# Altium integrated library Analog Devices Data Converters Analog-to-Digital Converters.IntLib: 2404 symbols (part 31 of 346)
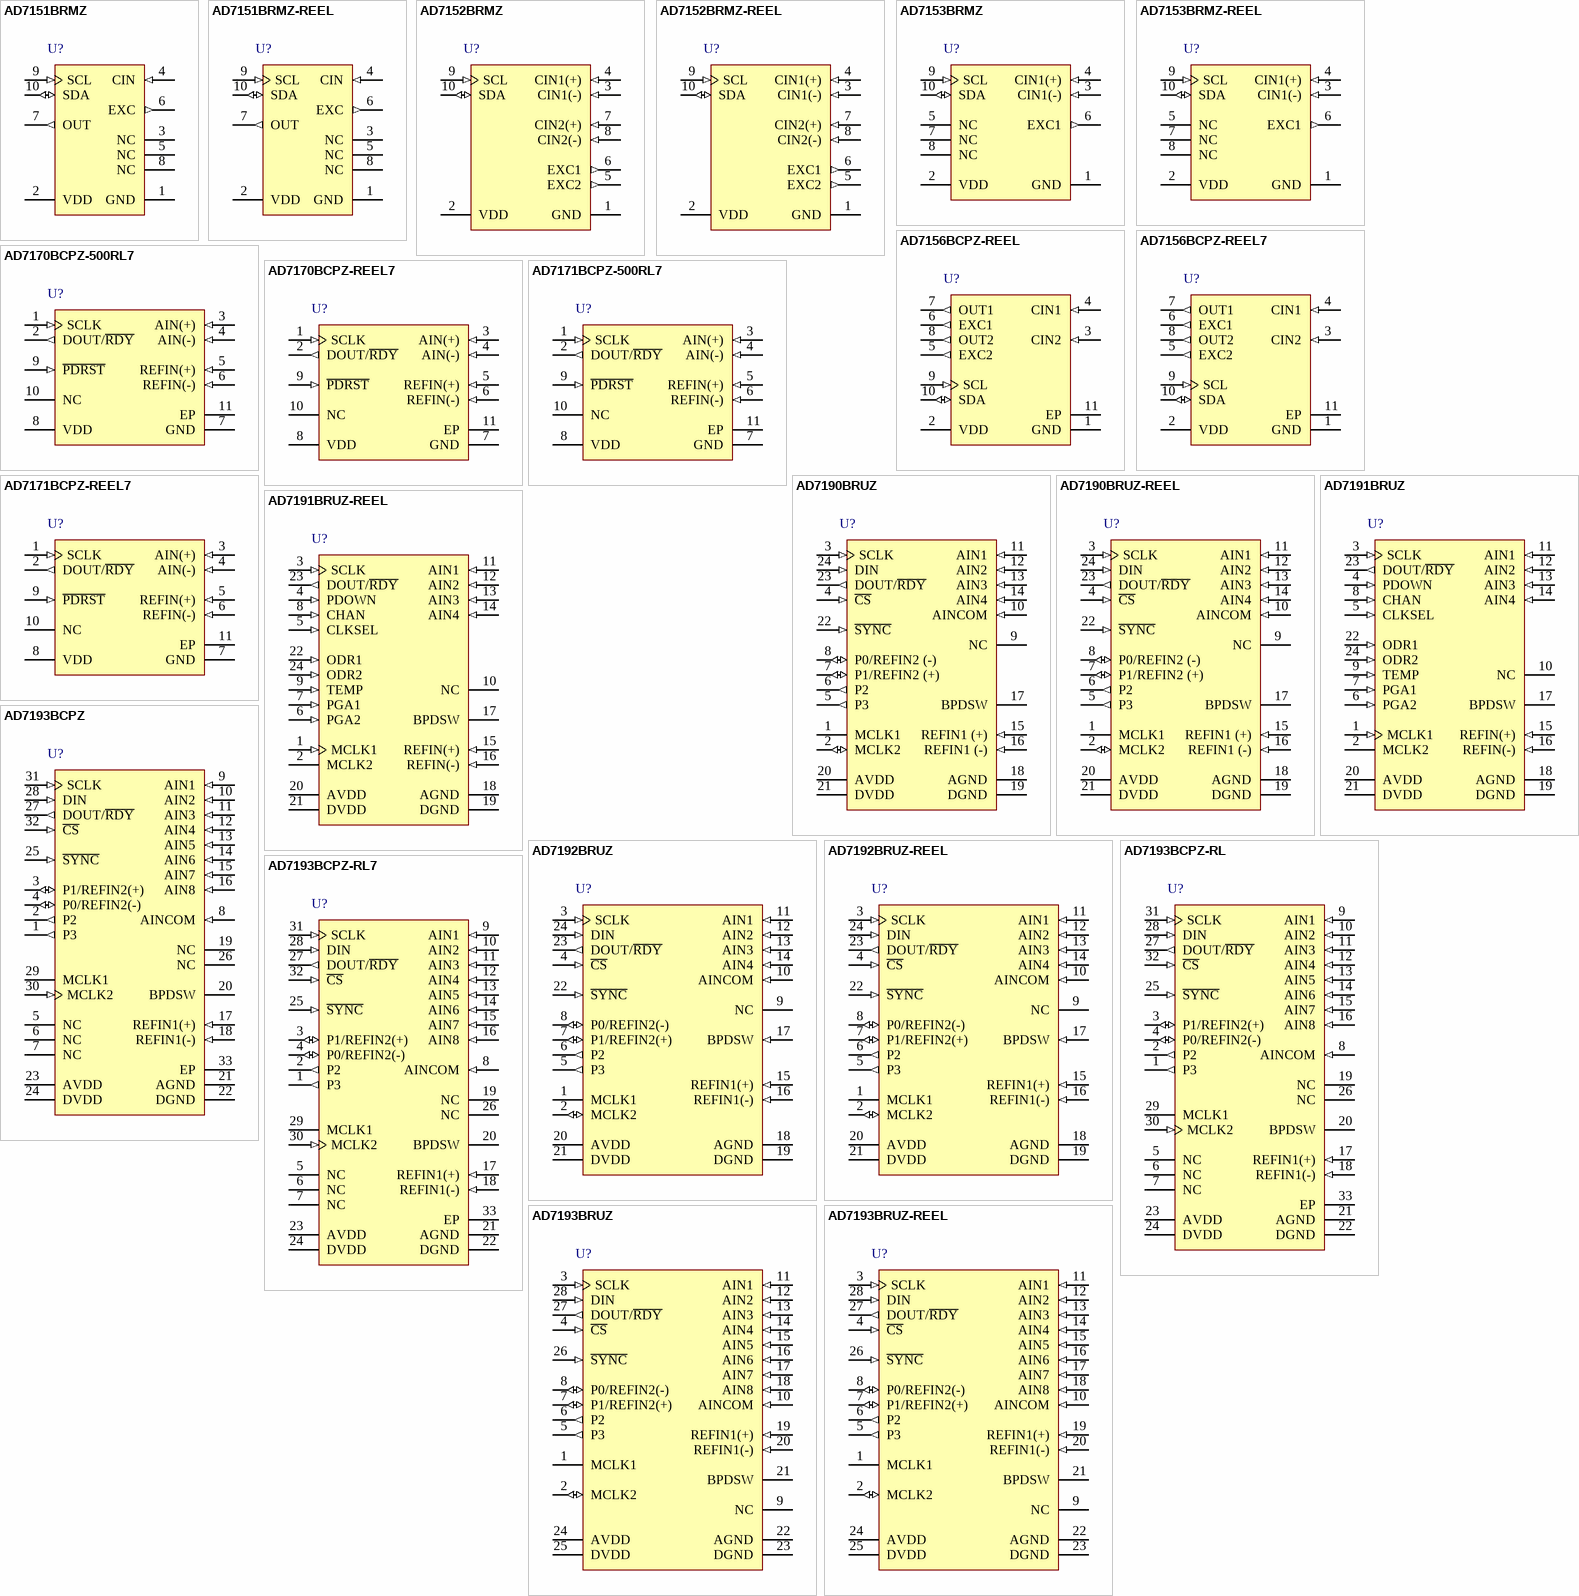
[diagram p271: symbols AD7151BRMZ to AD7193BRUZ-REEL]

## AD7192BRUZ-REEL
designator U?
Quad 24-Bit Ultralow Noise Sigma-Delta Analog-to-Digital Converter with Serial, SPI Interface and PGA, 4.8KSPS, -40 to +105 degC, RU-24, Pb-Free, Reel; Generic Part Number: AD7192; Manufacturer: Analog Devices; PartNumber: AD7192BRUZ-REEL; Resolution (Bits): 24; Channels: 4; Throughput Rate (SPS): 4.8K; Interface: Ser, SPI; DatasheetVersion: Rev.A; PackageVersion: 2002; PackageReference: RU-24; PackageDescription: 24-Lead Thin Shrink Small Outline Package [TSSOP]; Supplier 1: Digi-Key; Supplier Part Number 1: AD7192BRUZ-REEL-ND; Supplier 2: Mouser; Supplier Part Number 2: 584-AD7192BRUZ-R; RoHS: Y; Packing: Reel; Mounting Technology: Surface Mount; Code_JEDEC: MO-153-AD; ComponentLink1Description: Manufacturer URL; ComponentLink1URL: http://www.analog.com/en/index.html; ComponentLink2Description: Datasheet; ComponentLink2URL: http://www.analog.com/static/imported-files/data_sheets/AD7192.pdf; ComponentLink3Description: Package Specification; ComponentLink3URL: http://www.analog.com/static/imported-files/packages/380523655245964505593671154107510036154RU24.pdf; ComponentLink4Description: Product URL; ComponentLink4URL: http://www.analog.com/en/analog-to-digital-converters/ad-converters/ad7192/products/product.html
footprint RU-24_N (TSOP, 24-Leads, Body 7.8x4.4mm, Pitch 0.65mm, IPC Medium Density)
footprint RU-24_L (TSOP, 24-Leads, Body 7.8x4.4mm, Pitch 0.65mm, IPC High Density)
footprint RU-24_M (TSOP, 24-Leads, Body 7.8x4.4mm, Pitch 0.65mm, IPC Low Density)
pins: 1 MCLK1 "When the master clock for the device is provided externally by a crystal, the crystal is connected between MCLK1 and MCLK2.", 2 MCLK2 (io) "Master Clock Signal for the Device. The AD7192 has an internal 4.92 MHz clock. This internal clock can be made available on the MCLK2 pin. The clock for the AD7192 can be provided externally also in the form of a crystal or (See Datasheet)", 3 SCLK (in) "Serial Clock Input. This serial clock input is for data transfers to and from the ADC. The SCLK has a Schmitt-triggered input, making the interface suitable for opto-isolated applications. The serial clock can be continuous (See Datasheet)", 4 ~{CS} (in) "Chip Select Input. This is an active low logic input used to select the ADC. C\S\ can be used to select the ADC in systems with more than one device on the serial bus or as a frame synchronization signal in communicating (See Datasheet)", 5 P3 (out) "Digital Output Pin. This pin can function as a general-purpose output bit referenced between AVDD and AGND.", 6 P2 (out) "Digital Output Pin. This pin can function as a general-purpose output bit referenced between AVDD and AGND.", 7 P1/REFIN2(+) (io) "Digital Output Pin/Positive Reference Input. This pin functions as a general-purpose output bit referenced between AVDD and AGND. When the REFSEL bit in the configuration register = 1, this pin functions as REFIN2(+). An (See Datasheet)", 8 P0/REFIN2(-) (io) "Digital Output Pin/Negative Reference Input. This pin functions as a general-purpose output bit referenced between AVDD and AGND. When the REFSEL bit in the configuration register = 1, this pin functions as REFIN2(-). This (See Datasheet)", 9 NC "No Connect. This pin should be tied to AGND.", 10 AINCOM (in) "Analog inputs AIN1 to AIN4 are referenced to this input when configured for pseudodifferential operation.", 11 AIN1 (in) "Analog Input. This pin can be configured as the positive input of a fully differential input pair when used with AIN2 or as a pseudodifferential input when used with AINCOM.", 12 AIN2 (in) "Analog Input. This pin can be configured as the negative input of a fully differential input pair when used with AIN1 or as a pseudodifferential input when used with AINCOM.", 13 AIN3 (in) "Analog Input. This pin can be configured as the positive input of a fully differential input pair when used with AIN4 or as a pseudodifferential input when used with AINCOM.", 14 AIN4 (in) "Analog Input. This pin can be configured as the negative input of a fully differential input pair when used with AIN3 or as a pseudodifferential input when used with AINCOM.", 15 REFIN1(+) (in) "Positive Reference Input. An external reference can be applied between REFIN1(+) and REFIN1(-). REFIN1(+) can lie anywhere between AVDD and AGND + 1 V. The nominal reference voltage, (REFIN1(+) - REFIN1(-)), is AVDD, but the (See Datasheet)", 16 REFIN1(-) (in) "Negative Reference Input. This reference input can lie anywhere between AGND and AVDD - 1 V.", 17 BPDSW (in) "Bridge Power-Down Switch to AGND.", 18 AGND (power) "Analog Ground Reference Point", 19 DGND (power) "Digital Ground Reference Point.", 20 AVDD (power) "Analog Supply Voltage, 3 V to 5.25 V. AVDD is independent of DVDD. Therefore, DVDD can be operated at 3 V with AVDD at 5 V or vice versa.", 21 DVDD (power) "Digital Supply Voltage, 2.7 V to 5.25 V. DVDD is independent of AVDD. Therefore, AVDD can be operated at 3 V with DVDD at 5 V or vice versa.", 22 ~{SYNC} (in) "Logic input that allows for synchronization of the digital filters and analog modulators when using a number of AD7192 devices. While S\Y\N\C\ is low, the nodes of the digital filter, the filter control logic, and the (See Datasheet)", 23 DOUT/~{RDY} (out) "Serial Data Output/Data Ready Output. DOUT/R\D\Y\ serves a dual purpose. It functions as a serial data output pin to access the output shift register of the ADC. The output shift register can contain data from any of the (See Datasheet)", 24 DIN (in) "Serial Data Input to the Input Shift Register on the ADC. Data in this shift register is transferred to the control registers in the ADC, with the register selection bits of the communications register identifying the (See Datasheet)"

## AD7193BCPZ
designator U?
Quad 24-Bit Ultralow Noise Sigma-Delta Analog-to-Digital Converter with Serial, SPI Interface and PGA, 4.8KSPS, -40 to +105 degC, CP-32-11, Pb-Free, Tray; Generic Part Number: AD7193; Manufacturer: Analog Devices; PartNumber: AD7193BCPZ; Resolution (Bits): 24; Channels: 4; Throughput Rate (SPS): 4.8K; Interface: Ser, SPI; DatasheetVersion: Rev.C; PackageVersion: 011708-A; PackageReference: CP-32-11; PackageDescription: 32-Lead Lead Frame Chip Scale Package [LFCSP_VQ] 5 x 5 mm Body, Very Thin Quad; Supplier 1: Digi-Key; Supplier Part Number 1: AD7193BCPZ-ND; Supplier 2: Newark; Supplier Part Number 2: 74R5970; Supplier 3: Mouser; Supplier Part Number 3: 584-AD7193BCPZ; RoHS: Y; Packing: Tray; Mounting Technology: Surface Mount; ComponentLink1Description: Manufacturer URL; ComponentLink1URL: http://www.analog.com/en/index.html; ComponentLink2Description: Datasheet; ComponentLink2URL: http://www.analog.com/static/imported-files/data_sheets/AD7193.pdf; ComponentLink3Description: Package Specification; ComponentLink3URL: http://www.analog.com/static/imported-files/packages/PKG_PDF/LFCSP(CP)/CP-32/CP_32_11.pdf; ComponentLink4Description: Product URL; ComponentLink4URL: http://www.analog.com/en/analog-to-digital-converters/ad-converters/ad7193/products/product.html
footprint CP-32-11_N (QFN, 32-Leads, Body 5x5mm, Pitch 0.5mm, Thermal Pad 3.6x3.6mm, IPC Medium Density)
footprint CP-32-11_L (QFN, 32-Leads, Body 5x5mm, Pitch 0.5mm, Thermal Pad 3.6x3.6mm, IPC High Density)
footprint CP-32-11_M (QFN, 32-Leads, Body 5x5mm, Pitch 0.5mm, Thermal Pad 3.6x3.6mm, IPC Low Density)
pins: 1 P3 (out) "Digital Output Pin. This pin can function as a general-purpose output bit referenced between AVDD and AGND.", 2 P2 (out) "Digital Output Pin. This pin can function as a general-purpose output bit referenced between AVDD and AGND.", 3 P1/REFIN2(+) (io) "Digital Output Pin/Positive Reference Input. This pin functions as a general-purpose output bit referenced between AVDD and AGND. When the REFSEL bit in the configuration register = 1, this pin functions as REFIN2(+). An (See Datasheet)", 4 P0/REFIN2(-) (io) "Digital Output Pin/Negative Reference Input. This pin functions as a general-purpose output bit referenced between AVDD and AGND. When the REFSEL bit in the configuration register = 1, this pin functions as REFIN2(-). This (See Datasheet)", 5 NC "No Connect. Tie these pins to AGND.", 6 NC "No Connect. Tie these pins to AGND.", 7 NC "No Connect. Tie these pins to AGND.", 8 AINCOM (in) "Analog Input AIN1 to Analog Input AIN8 are referenced to this input when configured for pseudo differential operation.", 9 AIN1 (in) "Analog Input. This pin can be configured as the positive input of a fully differential input pair when used with AIN2 or as a pseudo differential input when used with AINCOM.", 10 AIN2 (in) "Analog Input. This pin can be configured as the negative input of a fully differential input pair when used with AIN1 or as a pseudo differential input when used with AINCOM.", 11 AIN3 (in) "Analog Input. This pin can be configured as the positive input of a fully differential input pair when used with AIN4 or as a pseudo differential input when used with AINCOM.", 12 AIN4 (in) "Analog Input. This pin can be configured as the negative input of a fully differential input pair when used with AIN3 or as a pseudo differential input when used with AINCOM.", 13 AIN5 (in) "Analog Input. This pin can be configured as the positive input of a fully differential input pair when used with AIN6 or as a pseudo differential input when used with AINCOM.", 14 AIN6 (in) "Analog Input. This pin can be configured as the negative input of a fully differential input pair when used with AIN5 or as a pseudo differential input when used with AINCOM.", 15 AIN7 (in) "Analog Input. This pin can be configured as the positive input of a fully differential input pair when used with AIN8 or as a pseudo differential input when used with AINCOM.", 16 AIN8 (in) "Analog Input. This pin can be configured as the negative input of a fully differential input pair when used with AIN7 or as a pseudo differential input when used with AINCOM.", 17 REFIN1(+) (in) "Positive Reference Input. An external reference can be applied between REFIN1(+) and REFIN1(-). REFIN1(+) can lie anywhere between AVDD and AGND + 1 V. The nominal reference voltage, (REFIN1(+) - REFIN1(-)), is AVDD, but the (See Datasheet)", 18 REFIN1(-) (in) "Negative Reference Input. This reference input can lie anywhere between AGND and AVDD - 1 V.", 19 NC "No Connect. Tie these pins to AGND.", 20 BPDSW "Bridge Power-Down Switch to AGND.", 21 AGND (power) "Analog Ground Reference Point.", 22 DGND (power) "Digital Ground Reference Point.", 23 AVDD (power) "Analog Supply Voltage, 3 V to 5.25 V. AVDD is independent of DVDD. Therefore, DVDD can be operated at 3 V with AVDD at 5 V or vice versa.", 24 DVDD (power) "Digital Supply Voltage, 2.7 V to 5.25 V. DVDD is independent of AVDD. Therefore, AVDD can be operated at 3 V with DVDD at 5 V or vice versa.", 25 ~{SYNC} (in) "Logic input that allows for S\Y\N\C\hronization of the digital filters and analog modulators when using a number of AD7193 devices. While S\Y\N\C\ is low, the nodes of the digital filter, the filter control logic, and the (See Datasheet)", 26 NC "No Connect. Tie these pins to AGND.", 27 DOUT/~{RDY} (out) "Serial Data Output/Data Ready Output. DOUT/R\D\Y\ serves a dual purpose. It functions as a serial data output pin to access the output shift register of the ADC. The output shift register can contain data from any of the (See Datasheet)", 28 DIN (in) "Serial Data Input to the Input Shift Register on the ADC. Data in this shift register is transferred to the control registers in the ADC, with the register selection bits of the communications register identifying the (See Datasheet)", 29 MCLK1 "When the master clock for the device is provided externally by a crystal, the crystal is connected between MCLK1 and MCLK2.", 30 MCLK2 (in) "Master Clock Signal for the Device. The AD7193 has an internal 4.92 MHz clock. This internal clock can be made available on the MCLK2 pin. The clock for the AD7193 can also be provided externally in the form of a crystal or (See Datasheet)", 31 SCLK (in) "Serial Clock Input. This serial clock input is for data transfers to and from the ADC. The SCLK has a Schmitt-triggered input, making the interface suitable for opto-isolated applications. The serial clock can be continuous (See Datasheet)", 32 ~{CS} (in) "Chip Select Input. This is an active low logic input used to select the ADC. C\S\ can be used to select the ADC in systems with more than one device on the serial bus or as a frame S\Y\N\C\hronization signal in communicating (See Datasheet)", 33 EP (power) "The exposed pad must be connected to AGND."